# Altium schematic symbol library 691214110002.SchLib: 1 symbol
Pins are listed as number, name and electrical type; pins without a type are passive.

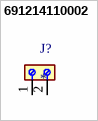
[diagram p0: symbol 691214110002]

## 691214110002
designator J?
2 Position Wire to Board Terminal Block Horizontal with Board 0.138 (3.50mm) Through Hole; MF: WÃ¼rth Elektronik; MP: 691214110002; SnapEDA_Link: https://www.snapeda.com/parts/691214110002/W%25C3%25BCrth+Elektronik+Midcom/view-part/?ref=snap; Package: None; Value: *; Check_prices: https://www.snapeda.com/parts/691214110002/W%25C3%25BCrth+Elektronik+Midcom/view-part/?ref=eda
footprint 691214110002
pins: 1, 2